# Altium integrated library ALCOTESTCOMPONENTS.IntLib: 8 symbols
Pins are listed as number, name and electrical type; pins without a type are passive.

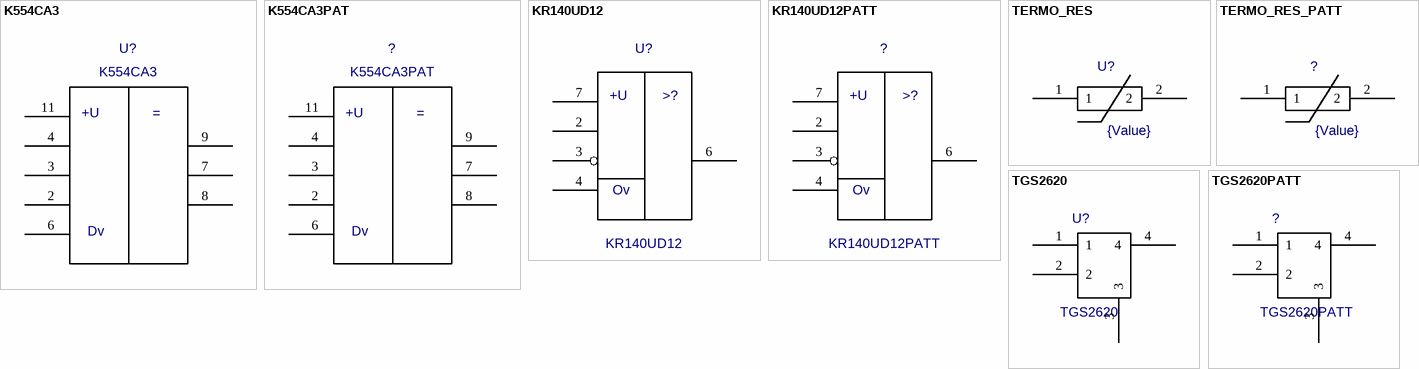
[diagram p0: symbols K554CA3 to TGS2620PATT]

## K554CA3
designator U?
Value: *
pins: 2, 3, 4, 6, 7, 8, 9, 11
text: +U; Dv

## K554CA3PAT
designator ?
Value: *
footprint K554CA3PAT
pins: 1 VCC (power) hidden, 2, 3, 4, 5 hidden, 6, 7, 8, 9, 10 GND (power) hidden, 11, 12 hidden, 13 hidden, 14 hidden
text: +U; Dv

## KR140UD12
designator U?
Value: *
pins: 2, 3, 4, 6, 7
text: +U; >?; Ov

## KR140UD12PATT
designator ?
Value: *
footprint KR140UD12PATT
pins: 1 hidden, 2, 3, 4, 5 hidden, 6, 7, 8 Vcc (power) hidden, 9 hidden, 10 GND (power) hidden, 11 hidden, 12 hidden, 13 hidden, 14 hidden
text: +U; >?; Ov

## TERMO_RES
designator U?  value {Value}  (hidden comment: *)
pins: 1, 2

## TERMO_RES_PATT
designator ?  value {Value}  (hidden comment: *)
footprint TERMO_RES_PATT
pins: 1, 2

## TGS2620
designator U?
Value: *
pins: 1, 2, 3, 4

## TGS2620PATT
designator ?
Value: *
footprint TGS2620PATTTGS2620PATTPrimary
pins: 1, 2, 3, 4